# EAGLE library part MT8808 (library mt88xx)
Zarlink MT8808 - 8x8 Analog Switch Matrix
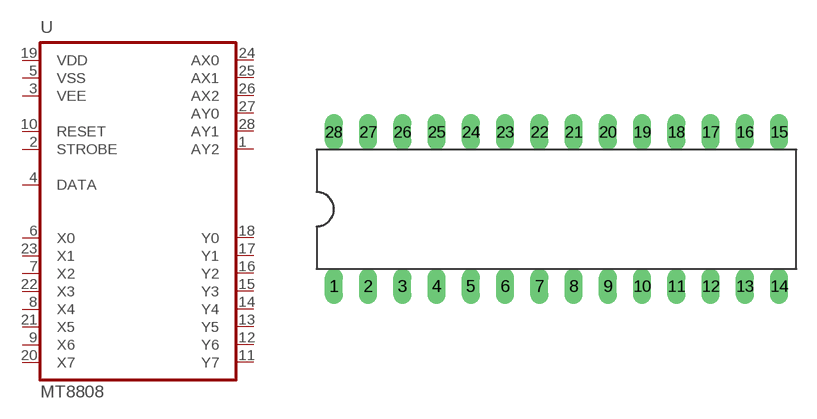
[diagram p1: symbol with the pads of DIL28; footprint DIL28]

Designator prefix -

## MT8808  [DIL28]
1  AY2
2  STROBE  in
3  VEE  in
4  DATA  in
5  VSS  pwr
6  X0  in
7  X2  in
8  X4
9  X6
10  RESET  in
11  Y7
12  Y6
13  Y5
14  Y4
15  Y3
16  Y2
17  Y1
18  Y0
19  VDD  pwr
20  X7
21  X5
22  X3
23  X1  out
24  AX0
25  AX1
26  AX2
27  AY0
28  AY1

## Footprint DIL28 (pad centres in mm)
drill 0.813 long: 1 -16.51,-5.08; 2 -13.97,-5.08; 3 -11.43,-5.08; 4 -8.89,-5.08; 5 -6.35,-5.08; 6 -3.81,-5.08; 7 -1.27,-5.08; 8 1.27,-5.08; 9 3.81,-5.08; 10 6.35,-5.08; 11 8.89,-5.08; 12 11.43,-5.08; 13 13.97,-5.08; 14 16.51,-5.08; 15 16.51,6.35; 16 13.97,6.35; 17 11.43,6.35; 18 8.89,6.35; 19 6.35,6.35; 20 3.81,6.35; 21 1.27,6.35; 22 -1.27,6.35; 23 -3.81,6.35; 24 -6.35,6.35; 25 -8.89,6.35; 26 -11.43,6.35; 27 -13.97,6.35; 28 -16.51,6.35